# EAGLE library part 1747981-1 (library Common-Parts-Library-Eagle)
HDMI Connectors Product Highlights: Size = Standard Type A Series Receptacle 1 Ports Terminate To Printed Circuit Board
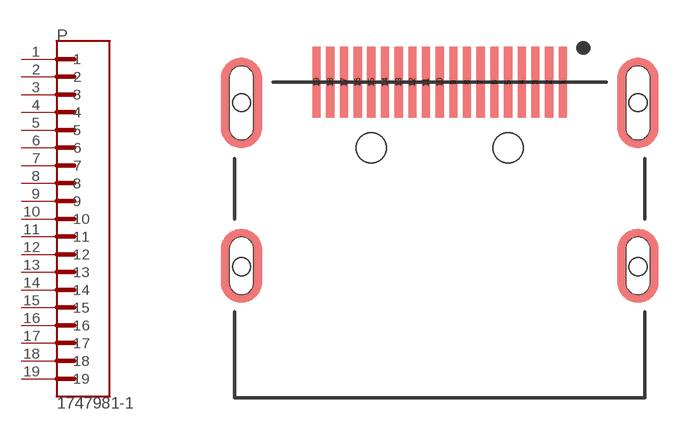
[diagram p18: symbol with the pads of TE_1747981-1; footprint TE_1747981-1]

Designator prefix P

## 1747981-1 (MANUFACTURER: TE Connectivity)  [TE_1747981-1]
1  1  pas
2  2  pas
3  3  pas
4  4  pas
5  5  pas
6  6  pas
7  7  pas
8  8  pas
9  9  pas
10  10  pas
11  11  pas
12  12  pas
13  13  pas
14  14  pas
15  15  pas
16  16  pas
17  17  pas
18  18  pas
19  19  pas

## Footprint TE_1747981-1 (pad centres in mm)
smd 0.3 x 2.6: 1 4.5,0; 2 4,0; 3 3.5,0; 4 3,0; 5 2.5,0; 6 2,0; 7 1.5,0; 8 1,0; 9 0.5,0; 10 0,0; 11 -0.5,0; 12 -1,0; 13 -1.5,0; 14 -2,0; 15 -2.5,0; 16 -3,0; 17 -3.5,0; 18 -4,0; 19 -4.5,0
hole 1.1 at -2.5,-2.4
hole 1.1 at 2.5,-2.4
hole 0.65 at -7.25,-0.75
hole 0.65 at 7.25,-0.75
hole 0.65 at 7.25,-6.75
hole 0.65 at -7.25,-6.75